# Altium schematic symbol library 06035C151KAT2A.SchLib: 1 symbol
Pins are listed as number, name and electrical type; pins without a type are passive.

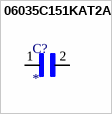
[diagram p0: symbol 06035C151KAT2A]

## 06035C151KAT2A
designator C?
Cap Ceramic 150pF 50V X7R 10% SMD 0603 125Â°C T/R; MP: 06035C151KAT2A; Package: None; Price: None; Value: *; Availability: Unavailable
pins: 1, 2